# EAGLE library part DSPIC33EP512MC504 (library tactile-music)
DSPIC33EP512MC504 PIC with Digital Signal Processor from microchip.
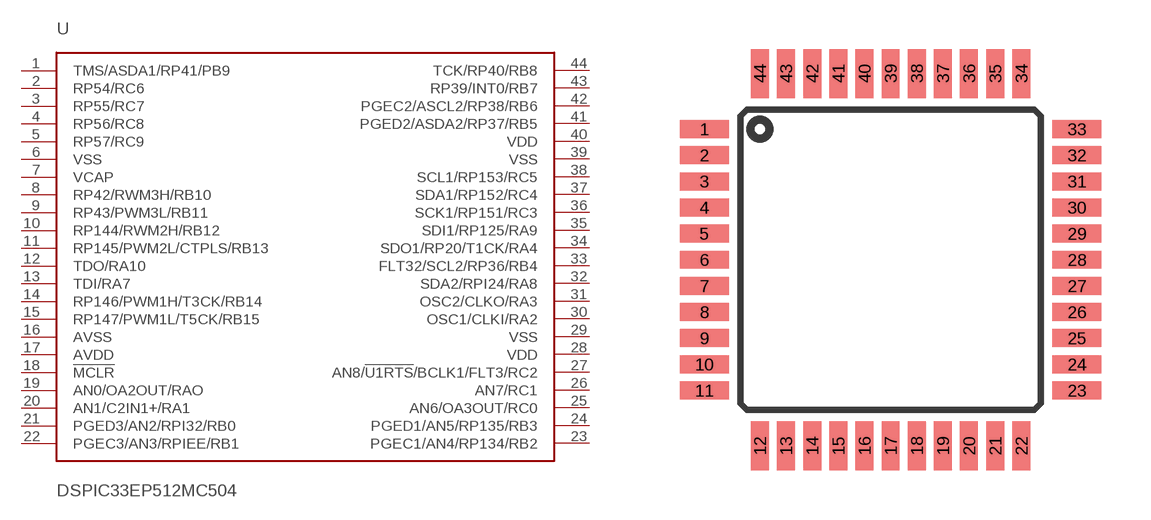
[diagram p1: symbol with the pads of TQFP44; footprint TQFP44]

Designator prefix U

## DSPIC33EP512MC504  [TQFP44]
1  TMS/ASDA1/RP41/PB9
2  RP54/RC6
3  RP55/RC7
4  RP56/RC8
5  RP57/RC9
6  VSS  pwr
7  VCAP  pas
8  RP42/RWM3H/RB10
9  RP43/PWM3L/RB11
10  RP144/RWM2H/RB12
11  RP145/PWM2L/CTPLS/RB13
12  TDO/RA10
13  TDI/RA7
14  RP146/PWM1H/T3CK/RB14
15  RP147/PWM1L/T5CK/RB15
16  AVSS  pwr
17  AVDD  pwr
18  !MCLR
19  AN0/OA2OUT/RAO
20  AN1/C2IN1+/RA1
21  PGED3/AN2/RPI32/RB0
22  PGEC3/AN3/RPIEE/RB1
23  PGEC1/AN4/RP134/RB2
24  PGED1/AN5/RP135/RB3
25  AN6/OA3OUT/RC0
26  AN7/RC1
27  AN8/!U1RTS!/BCLK1/FLT3/RC2
28  VDD
29  VSS
30  OSC1/CLKI/RA2
31  OSC2/CLKO/RA3
32  SDA2/RPI24/RA8
33  FLT32/SCL2/RP36/RB4
34  SDO1/RP20/T1CK/RA4
35  SDI1/RP125/RA9
36  SCK1/RP151/RC3
37  SDA1/RP152/RC4
38  SCL1/RP153/RC5
39  VSS
40  VDD
41  PGED2/ASDA2/RP37/RB5
42  PGEC2/ASCL2/RP38/RB6
43  RP39/INT0/RB7
44  TCK/RP40/RB8

## Footprint TQFP44 (pad centres in mm)
Thin Quad Flat Pack package type TQ
smd 1.5 x 0.55: 1 -5.7,4; 2 -5.7,3.2; 3 -5.7,2.4; 4 -5.7,1.6; 5 -5.7,0.8; 6 -5.7,0; 7 -5.7,-0.8; 8 -5.7,-1.6; 9 -5.7,-2.4; 10 -5.7,-3.2; 11 -5.7,-4; 23 5.7,-4; 24 5.7,-3.2; 25 5.7,-2.4; 26 5.7,-1.6; 27 5.7,-0.8; 28 5.7,0; 29 5.7,0.8; 30 5.7,1.6; 31 5.7,2.4; 32 5.7,3.2; 33 5.7,4
smd 0.55 x 1.5: 12 -4,-5.7; 13 -3.2,-5.7; 14 -2.4,-5.7; 15 -1.6,-5.7; 16 -0.8,-5.7; 17 0,-5.7; 18 0.8,-5.7; 19 1.6,-5.7; 20 2.4,-5.7; 21 3.2,-5.7; 22 4,-5.7; 34 4,5.7; 35 3.2,5.7; 36 2.4,5.7; 37 1.6,5.7; 38 0.8,5.7; 39 0,5.7; 40 -0.8,5.7; 41 -1.6,5.7; 42 -2.4,5.7; 43 -3.2,5.7; 44 -4,5.7